# Altium footprint library L944-UV265-2-20.PcbLib: 1 footprints
Each footprint in its own frame and in the unit in brackets; x right, y up, seen from the top. Pads: shape width x height; smd on the part's side, far side on the other; paste and mask are expansions set on the pad; w line width, h text height; cw(c..) or ccw(c..) is an arc to the next point about the centre after c.
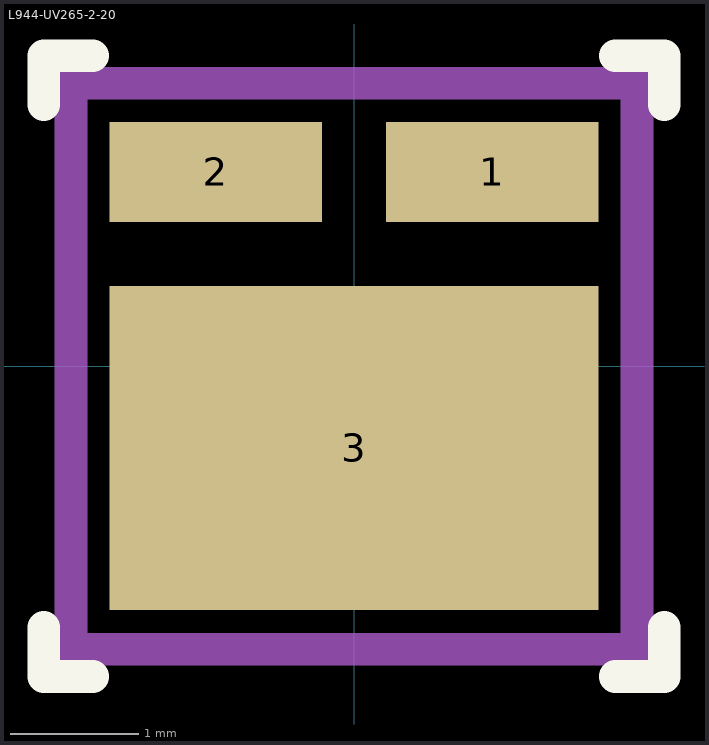
[diagram p0: the footprint, top view; thin cyan lines are the x and y axes]

## L944-UV265-2-20 [mm]
pads (3):
  rect 1.65x0.78 smd: 1(1.075,1.51) 2(-1.075,1.51)
  rect 3.8x2.52 smd: 3(0,-0.635)
Top Overlay:
  lines w0.254: -2.413,-2.032 -2.413,-2.413 -2.032,-2.413 ; -2.413,2.032 -2.413,2.413 -2.032,2.413 ; 2.032,-2.413 2.413,-2.413 2.413,-2.032 ; 2.032,2.413 2.413,2.413 2.413,2.032
Mechanical 1:
  lines w0.254: -2.2,-2.2 2.2,-2.2 2.2,2.2 -2.2,2.2 -2.2,-2.2